# Altium schematic symbol library Schlib1.SchLib: 3 symbols
Pins are listed as number, name and electrical type; pins without a type are passive.

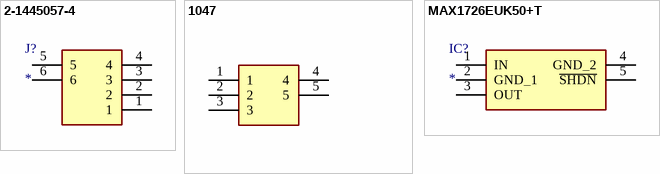
[diagram p0: symbols 2-1445057-4 to MAX1726EUK50+T]

## 2-1445057-4
designator J?
Connector; Manufacturer_Name: TE Connectivity; Manufacturer_Part_Number: 2-1445057-4; Description: 4 way 1 row r/a header SMT Mate-N-Lok; Datasheet Link: http://www.te.com/commerce/DocumentDelivery/DDEController?Action=showdoc&DocId=Customer+Drawing%7F1445057%7FC3%7Fpdf%7FEnglish%7FENG_CD_1445057_C3.pdf%7F2-1445057-4; Height: 3mm; Mouser Part Number: 571-2-1445057-4; Mouser Price/Stock: https://www.mouser.co.uk/ProductDetail/TE-Connectivity-AMP/2-1445057-4?qs=MP5IOa7hLjUITJfr001xww%3D%3D; Arrow Part Number: 2-1445057-4; Arrow Price/Stock: https://www.arrow.com/en/products/2-1445057-4/te-connectivity
footprint 214450574
pins: 1, 2, 3, 4, 5, 6

## 1047
designator U?
Undefined or Miscellaneous; Manufacturer_Name: Keystone Electronics; Manufacturer_Part_Number: 1047; Description: KEYSTONE - 1047 - BATTERY HOLDER; Datasheet Link: https://www.keyelco.com/product.cfm/product_id/14061; Height: 14.85mm; Mouser Part Number: 534-1047; Mouser Price/Stock: https://www.mouser.co.uk/ProductDetail/Keystone-Electronics/1047?qs=up89fPMRNqBQruBm7zqCRQ%3D%3D
footprint 1047
pins: 1, 2, 3, 4, 5

## MAX1726EUK50+T
designator IC?
Integrated Circuit; Manufacturer_Name: Maxim Integrated; Manufacturer_Part_Number: MAX1726EUK50+T; Description: Linear Regulators; Datasheet Link: http://componentsearchengine.com/Datasheets/1/MAX1726EUK50+T.pdf; Height: 1.45mm; Mouser Part Number: 700-MAX1726EUK50T; Mouser Price/Stock: https://www.mouser.co.uk/ProductDetail/Maxim-Integrated/MAX1726EUK50%2bT?qs=Jw2w9zrI6w%252Bbrdx6zz2S%2FQ%3D%3D
footprint SOT95P280X145-5N
pins: 1 IN, 2 GND_1, 3 OUT, 4 GND_2, 5 ~{SHDN}